# Altium schematic symbol library Hub-UV17.SchLib: 26 symbols
Pins are listed as number, name and electrical type; pins without a type are passive.

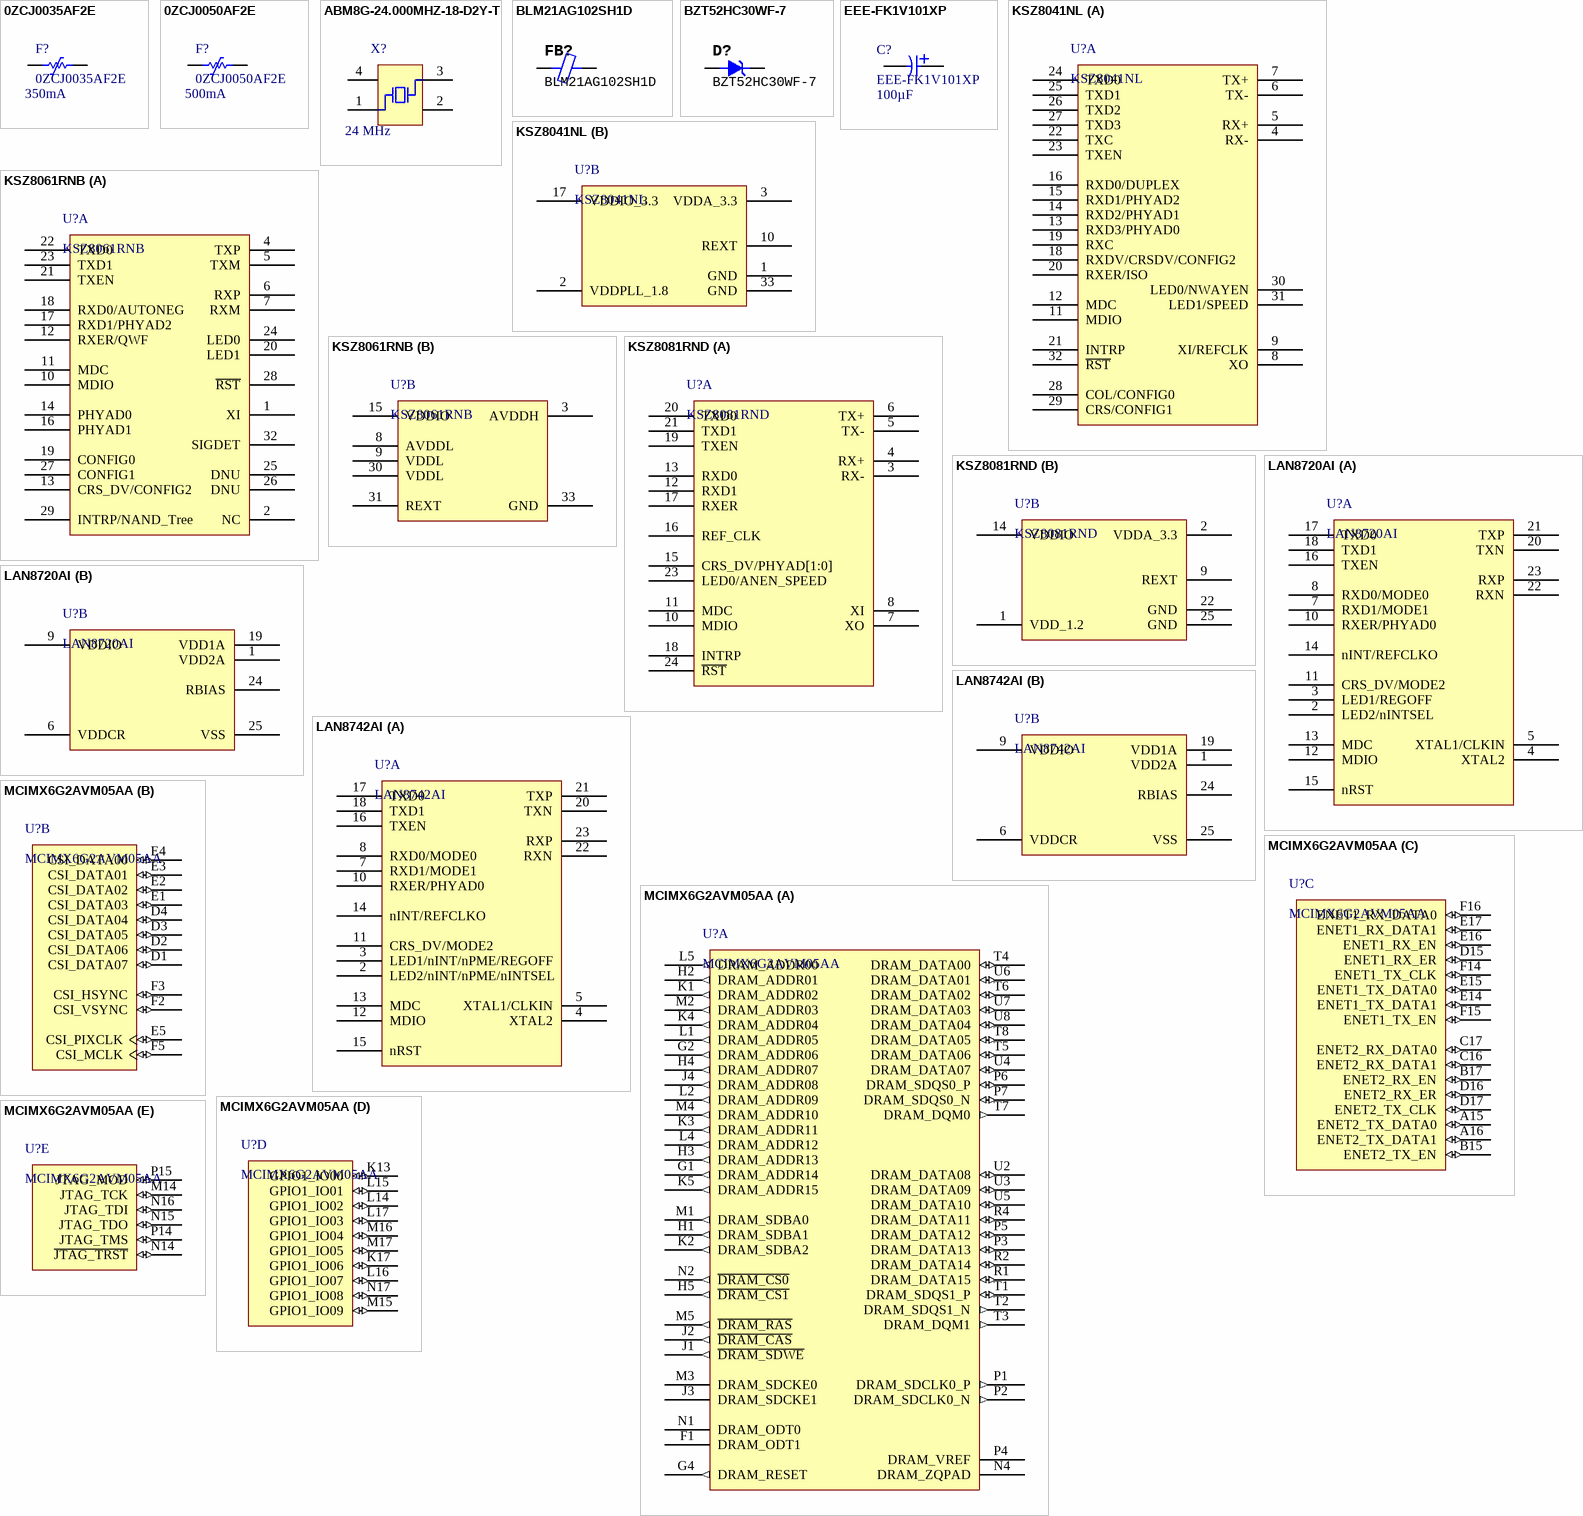
[diagram p0: symbols 0ZCJ0035AF2E to MCIMX6G2AVM05AA]

## 0ZCJ0035AF2E
designator F?  value 350mA
footprint 0ZCJ-1206-0.9
pins: 1, 2

## 0ZCJ0050AF2E
designator F?  value 500mA
footprint 0ZCJ-1206-0.9
pins: 1, 2

## ABM8G-24.000MHZ-18-D2Y-T
designator X?, comment value 24 MHz  (hidden comment: AMB8G)
footprint DFN220P320X100-4N (DFN, 4-Leads, Body 2.30x3.20mm, Pitch 2.20mm, IPC Medium Density)
pins: 1, 2, 3, 4

## BLM21AG102SH1D
designator FB?
Supplier 1: Digi-Key; Supplier Part Number 1: 490-10664-1-ND
footprint INDC2012X11N (Chip Inductor, 2-Leads, Body 2.00x1.25mm, IPC Medium Density)
pins: 1, 2

## BZT52HC30WF-7
designator D?
Supplier 1: Digi-Key; Supplier Part Number 1: BZT52HC30WF-7DICT-ND
footprint SODFL340X115-2N (SODFL, 2-Leads, Body 1.75x3.40mm, IPC Medium Density)
pins: 1 K, 2 A

## EEE-FK1V101XP
designator C?  value 100µF
Supplier 1: Digi-Key; Supplier Part Number 1: PCE3836CT-ND
footprint CAPAE7066X80M (Aluminum Electrolytic Capacitor, Body 6.60x6.60x8.00mm, IPC Low Density)
pins: 1, 2

## KSZ8041NL
designator U?
part A pins: 4 RX-, 5 RX+, 6 TX-, 7 TX+, 8 XO, 9 XI/REFCLK, 11 MDIO, 12 MDC, 13 RXD3/PHYAD0, 14 RXD2/PHYAD1, 15 RXD1/PHYAD2, 16 RXD0/DUPLEX, 18 RXDV/CRSDV/CONFIG2, 19 RXC, 20 RXER/ISO, 21 INTRP, 22 TXC, 23 TXEN, 24 TXD0, 25 TXD1, 26 TXD2, 27 TXD3, 28 COL/CONFIG0, 29 CRS/CONFIG1, 30 LED0/NWAYEN, 31 LED1/SPEED, 32 ~{RST}
part B pins: 1 GND, 2 VDDPLL_1.8, 3 VDDA_3.3, 10 REXT, 17 VDDIO_3.3, 33 GND

## KSZ8061RNB
designator U?
footprint QFN50P500X500X90_HS-33N (QFN, 32-Leads, Body 5.00x5.00mm, Pitch 0.50mm, Thermal Pad 3.10x3.10mm, IPC Medium Density)
part A pins: 1 XI, 2 NC, 4 TXP, 5 TXM, 6 RXP, 7 RXM, 10 MDIO, 11 MDC, 12 RXER/QWF, 13 CRS_DV/CONFIG2, 14 PHYAD0, 16 PHYAD1, 17 RXD1/PHYAD2, 18 RXD0/AUTONEG, 19 CONFIG0, 20 LED1, 21 TXEN, 22 TXD0, 23 TXD1, 24 LED0, 25 DNU, 26 DNU, 27 CONFIG1, 28 ~{RST}, 29 INTRP/NAND_Tree, 32 SIGDET
part B pins: 3 AVDDH, 8 AVDDL, 9 VDDL, 15 VDDIO, 30 VDDL, 31 REXT, 33 GND

## KSZ8081RND
designator U?
footprint QFN50P400X400X90_HS-25N (QFN, 24-Leads, Body 4.00x4.00mm, Pitch 0.50mm, Thermal Pad 2.50x2.50mm, IPC Medium Density)
part A pins: 3 RX-, 4 RX+, 5 TX-, 6 TX+, 7 XO, 8 XI, 10 MDIO, 11 MDC, 12 RXD1, 13 RXD0, 15 CRS_DV/PHYAD[1:0], 16 REF_CLK, 17 RXER, 18 INTRP, 19 TXEN, 20 TXD0, 21 TXD1, 23 LED0/ANEN_SPEED, 24 ~{RST}
part B pins: 1 VDD_1.2, 2 VDDA_3.3, 9 REXT, 14 VDDIO, 22 GND, 25 GND

## LAN8720AI
designator U?
footprint QFN50P400X400X100_HS-25N (QFN, 24-Leads, Body 4.00x4.00mm, Pitch 0.50mm, Thermal Pad 2.50x2.50mm, IPC Medium Density)
part A pins: 2 LED2/nINTSEL, 3 LED1/REGOFF, 4 XTAL2, 5 XTAL1/CLKIN, 7 RXD1/MODE1, 8 RXD0/MODE0, 10 RXER/PHYAD0, 11 CRS_DV/MODE2, 12 MDIO, 13 MDC, 14 nINT/REFCLKO, 15 nRST, 16 TXEN, 17 TXD0, 18 TXD1, 20 TXN, 21 TXP, 22 RXN, 23 RXP
part B pins: 1 VDD2A, 6 VDDCR, 9 VDDIO, 19 VDD1A, 24 RBIAS, 25 VSS

## LAN8742AI
designator U?
footprint QFN50P400X400X100_HS-25N (QFN, 24-Leads, Body 4.00x4.00mm, Pitch 0.50mm, Thermal Pad 2.50x2.50mm, IPC Medium Density)
ibis lan8742i (Model Description)
part A pins: 2 LED2/nINT/nPME/nINTSEL, 3 LED1/nINT/nPME/REGOFF, 4 XTAL2, 5 XTAL1/CLKIN, 7 RXD1/MODE1, 8 RXD0/MODE0, 10 RXER/PHYAD0, 11 CRS_DV/MODE2, 12 MDIO, 13 MDC, 14 nINT/REFCLKO, 15 nRST, 16 TXEN, 17 TXD0, 18 TXD1, 20 TXN, 21 TXP, 22 RXN, 23 RXP
part B pins: 1 VDD2A, 6 VDDCR, 9 VDDIO, 19 VDD1A, 24 RBIAS, 25 VSS

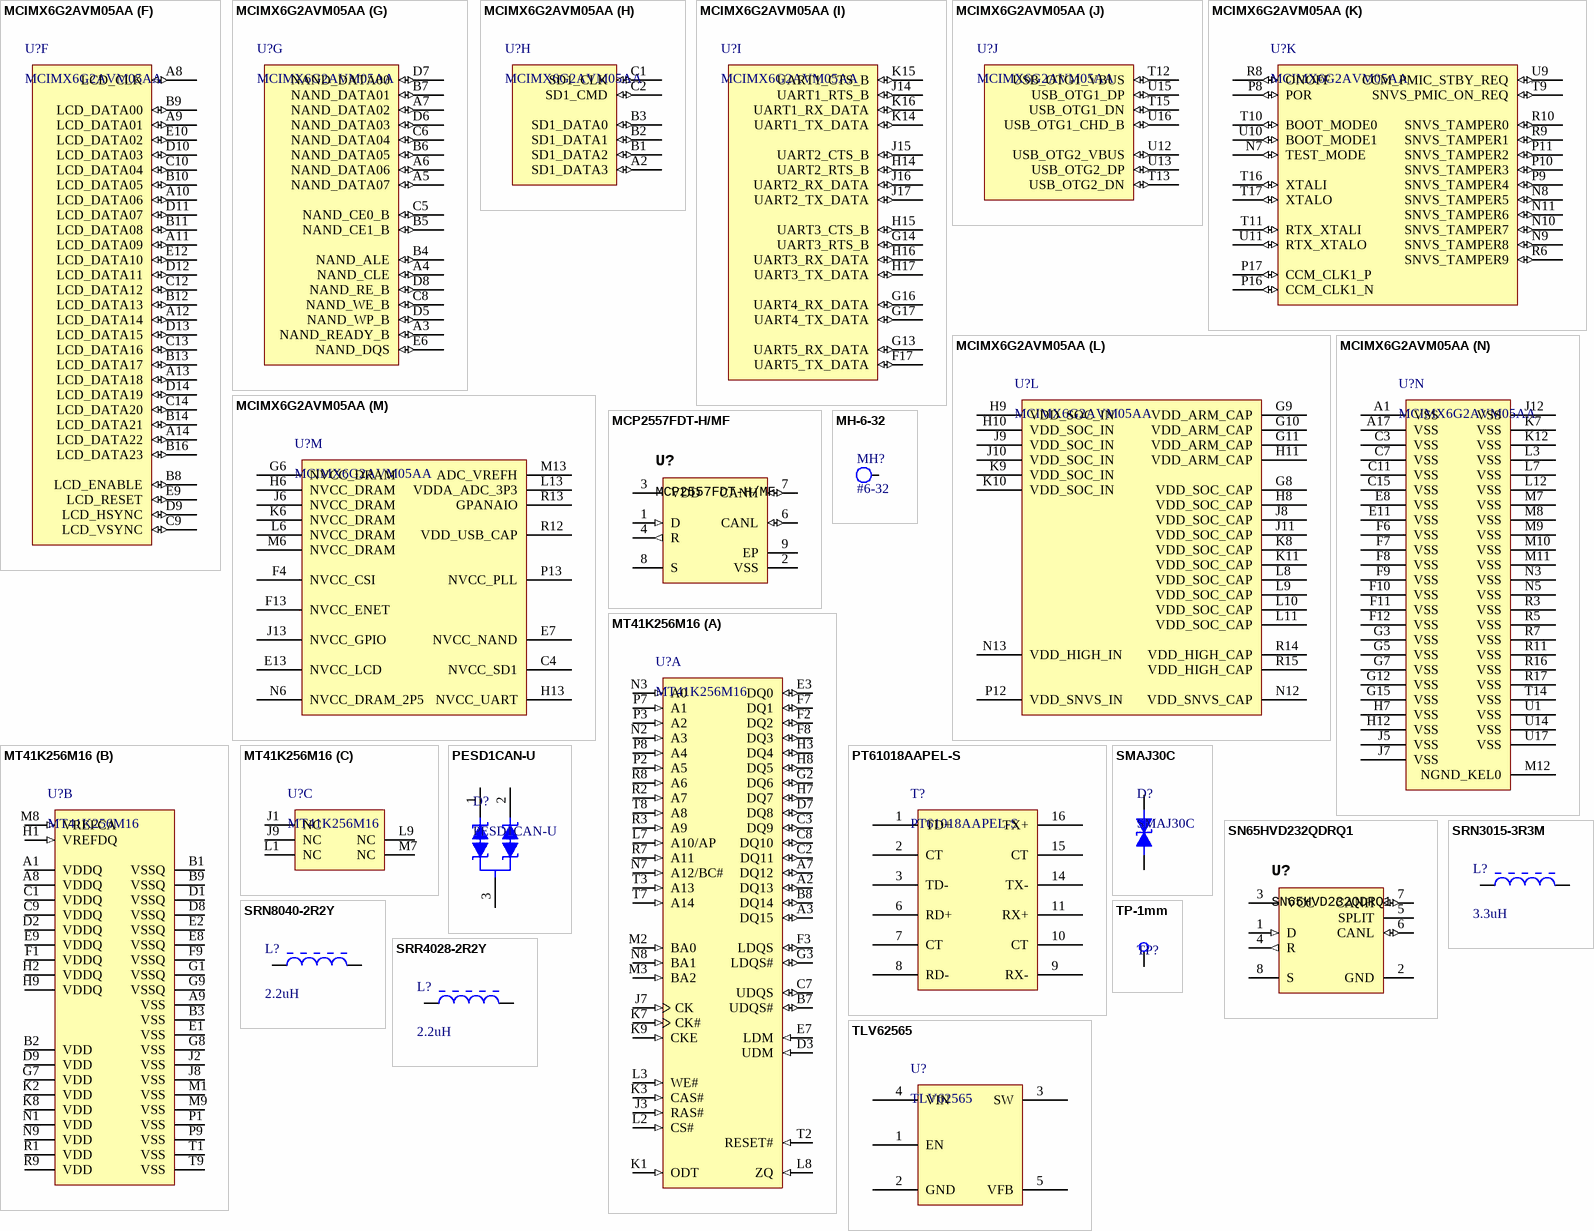
[diagram p1: symbols MCIMX6G2AVM05AA to TP-1mm]

## MCIMX6G2AVM05AA
designator U?
footprint BGA289C80P17X17_1400X1400X132 (BGA, 289-Leads, Body 14.00x14.00mmx1.32mm, Pitch 0.80mm)
ibis imx6ul_14x14 (Model Description)
part A pins: F1 DRAM_ODT1, G1 DRAM_ADDR14 (out), G2 DRAM_ADDR06 (out), G4 DRAM_RESET (out), H1 DRAM_SDBA1 (out), H2 DRAM_ADDR01 (out), H3 DRAM_ADDR13 (out), H4 DRAM_ADDR07 (out), H5 ~{DRAM_CS1} (out), J1 ~{DRAM_SDWE} (out), J2 ~{DRAM_CAS} (out), J3 DRAM_SDCKE1, J4 DRAM_ADDR08 (out), K1 DRAM_ADDR02 (out), K2 DRAM_SDBA2 (out), K3 DRAM_ADDR11 (out), K4 DRAM_ADDR04 (out), K5 DRAM_ADDR15 (out), L1 DRAM_ADDR05 (out), L2 DRAM_ADDR09 (out), L4 DRAM_ADDR12 (out), L5 DRAM_ADDR00 (out), M1 DRAM_SDBA0 (out), M2 DRAM_ADDR03 (out), M3 DRAM_SDCKE0, M4 DRAM_ADDR10 (out), M5 ~{DRAM_RAS} (out), N1 DRAM_ODT0, N2 ~{DRAM_CS0} (out), N4 DRAM_ZQPAD, P1 DRAM_SDCLK0_P (out), P2 DRAM_SDCLK0_N (out), P3 DRAM_DATA13 (io), P4 DRAM_VREF (power), P5 DRAM_DATA12 (io), P6 DRAM_SDQS0_P (io), P7 DRAM_SDQS0_N (io), R1 DRAM_DATA15 (io), R2 DRAM_DATA14 (io), R4 DRAM_DATA11 (io), T1 DRAM_SDQS1_P (io), T2 DRAM_SDQS1_N (out), T3 DRAM_DQM1 (out), T4 DRAM_DATA00 (io), T5 DRAM_DATA06 (io), T6 DRAM_DATA02 (io), T7 DRAM_DQM0 (out), T8 DRAM_DATA05 (io), U2 DRAM_DATA08 (io), U3 DRAM_DATA09 (io), U4 DRAM_DATA07 (io), U5 DRAM_DATA10 (io), U6 DRAM_DATA01 (io), U7 DRAM_DATA03 (io), U8 DRAM_DATA04 (io)
part B pins: D1 CSI_DATA07 (io), D2 CSI_DATA06 (io), D3 CSI_DATA05 (io), D4 CSI_DATA04 (io), E1 CSI_DATA03 (io), E2 CSI_DATA02 (io), E3 CSI_DATA01 (io), E4 CSI_DATA00 (io), E5 CSI_PIXCLK (io), F2 CSI_VSYNC (io), F3 CSI_HSYNC (io), F5 CSI_MCLK (io)
part C pins: A15 ENET2_TX_DATA0 (io), A16 ENET2_TX_DATA1 (io), B15 ENET2_TX_EN (io), B17 ENET2_RX_EN (io), C16 ENET2_RX_DATA1 (io), C17 ENET2_RX_DATA0 (io), D15 ENET1_RX_ER (io), D16 ENET2_RX_ER (io), D17 ENET2_TX_CLK (io), E14 ENET1_TX_DATA1 (io), E15 ENET1_TX_DATA0 (io), E16 ENET1_RX_EN (io), E17 ENET1_RX_DATA1 (io), F14 ENET1_TX_CLK (io), F15 ENET1_TX_EN (io), F16 ENET1_RX_DATA0 (io)
part D pins: K13 GPIO1_IO00 (io), K17 GPIO1_IO06 (io), L14 GPIO1_IO02 (io), L15 GPIO1_IO01 (io), L16 GPIO1_IO07 (io), L17 GPIO1_IO03 (io), M15 GPIO1_IO09 (io), M16 GPIO1_IO04 (io), M17 GPIO1_IO05 (io), N17 GPIO1_IO08 (io)
part E pins: M14 JTAG_TCK (io), N14 ~{JTAG_TRST} (io), N15 JTAG_TDO (io), N16 JTAG_TDI (io), P14 JTAG_TMS (io), P15 JTAG_MOD (io)
part F pins: A8 LCD_CLK (io), A9 LCD_DATA01 (io), A10 LCD_DATA06 (io), A11 LCD_DATA09 (io), A12 LCD_DATA14 (io), A13 LCD_DATA18 (io), A14 LCD_DATA22 (io), B8 LCD_ENABLE (io), B9 LCD_DATA00 (io), B10 LCD_DATA05 (io), B11 LCD_DATA08 (io), B12 LCD_DATA13 (io), B13 LCD_DATA17 (io), B14 LCD_DATA21 (io), B16 LCD_DATA23 (io), C9 LCD_VSYNC (io), C10 LCD_DATA04 (io), C12 LCD_DATA12 (io), C13 LCD_DATA16 (io), C14 LCD_DATA20 (io), D9 LCD_HSYNC (io), D10 LCD_DATA03 (io), D11 LCD_DATA07 (io), D12 LCD_DATA11 (io), D13 LCD_DATA15 (io), D14 LCD_DATA19 (io), E9 LCD_RESET (io), E10 LCD_DATA02 (io), E12 LCD_DATA10 (io)
part G pins: A3 NAND_READY_B (io), A4 NAND_CLE (io), A5 NAND_DATA07 (io), A6 NAND_DATA06 (io), A7 NAND_DATA02 (io), B4 NAND_ALE (io), B5 NAND_CE1_B (io), B6 NAND_DATA05 (io), B7 NAND_DATA01 (io), C5 NAND_CE0_B (io), C6 NAND_DATA04 (io), C8 NAND_WE_B (io), D5 NAND_WP_B (io), D6 NAND_DATA03 (io), D7 NAND_DATA00 (io), D8 NAND_RE_B (io), E6 NAND_DQS (io)
part H pins: A2 SD1_DATA3 (io), B1 SD1_DATA2 (io), B2 SD1_DATA1 (io), B3 SD1_DATA0 (io), C1 SD1_CLK (io), C2 SD1_CMD (io)
part I pins: F17 UART5_TX_DATA (io), G13 UART5_RX_DATA (io), G14 UART3_RTS_B (io), G16 UART4_RX_DATA (io), G17 UART4_TX_DATA (io), H14 UART2_RTS_B (io), H15 UART3_CTS_B (io), H16 UART3_RX_DATA (io), H17 UART3_TX_DATA (io), J14 UART1_RTS_B (io), J15 UART2_CTS_B (io), J16 UART2_RX_DATA (io), J17 UART2_TX_DATA (io), K14 UART1_TX_DATA (io), K15 UART1_CTS_B (io), K16 UART1_RX_DATA (io)
part J pins: T12 USB_OTG1_VBUS (io), T13 USB_OTG2_DN (io), T15 USB_OTG1_DN (io), U12 USB_OTG2_VBUS (io), U13 USB_OTG2_DP (io), U15 USB_OTG1_DP (io), U16 USB_OTG1_CHD_B (io)
part K pins: N7 TEST_MODE (io), N8 SNVS_TAMPER5 (io), N9 SNVS_TAMPER8 (io), N10 SNVS_TAMPER7 (io), N11 SNVS_TAMPER6 (io), P8 POR (io), P9 SNVS_TAMPER4 (io), P10 SNVS_TAMPER3 (io), P11 SNVS_TAMPER2 (io), P16 CCM_CLK1_N (io), P17 CCM_CLK1_P (io), R6 SNVS_TAMPER9 (io), R8 ONOFF (io), R9 SNVS_TAMPER1 (io), R10 SNVS_TAMPER0 (io), T9 SNVS_PMIC_ON_REQ (io), T10 BOOT_MODE0 (io), T11 RTX_XTALI (io), T16 XTALI (io), T17 XTALO (io), U9 CCM_PMIC_STBY_REQ (io), U10 BOOT_MODE1 (io), U11 RTX_XTALO (io)
part L pins: G8 VDD_SOC_CAP (power), G9 VDD_ARM_CAP (power), G10 VDD_ARM_CAP (power), G11 VDD_ARM_CAP (power), H8 VDD_SOC_CAP (power), H9 VDD_SOC_IN (power), H10 VDD_SOC_IN (power), H11 VDD_ARM_CAP (power), J8 VDD_SOC_CAP (power), J9 VDD_SOC_IN (power), J10 VDD_SOC_IN (power), J11 VDD_SOC_CAP (power), K8 VDD_SOC_CAP (power), K9 VDD_SOC_IN (power), K10 VDD_SOC_IN (power), K11 VDD_SOC_CAP (power), L8 VDD_SOC_CAP (power), L9 VDD_SOC_CAP (power), L10 VDD_SOC_CAP (power), L11 VDD_SOC_CAP (power), N12 VDD_SNVS_CAP (power), N13 VDD_HIGH_IN (power), P12 VDD_SNVS_IN (power), R14 VDD_HIGH_CAP (power), R15 VDD_HIGH_CAP (power)
part M pins: C4 NVCC_SD1 (power), E7 NVCC_NAND (power), E13 NVCC_LCD (power), F4 NVCC_CSI (power), F13 NVCC_ENET (power), G6 NVCC_DRAM (power), H6 NVCC_DRAM (power), H13 NVCC_UART (power), J6 NVCC_DRAM (power), J13 NVCC_GPIO (power), K6 NVCC_DRAM (power), L6 NVCC_DRAM (power), L13 VDDA_ADC_3P3 (power), M6 NVCC_DRAM (power), M13 ADC_VREFH (power), N6 NVCC_DRAM_2P5 (power), P13 NVCC_PLL (power), R12 VDD_USB_CAP (power), R13 GPANAIO (power)
part N pins: A1 VSS, A17 VSS, C3 VSS, C7 VSS, C11 VSS, C15 VSS, E8 VSS, E11 VSS, F6 VSS, F7 VSS, F8 VSS, F9 VSS, F10 VSS, F11 VSS, F12 VSS, G3 VSS, G5 VSS, G7 VSS, G12 VSS, G15 VSS, H7 VSS, H12 VSS, J5 VSS, J7 VSS, J12 VSS, K7 VSS, K12 VSS, L3 VSS, L7 VSS, L12 VSS, M7 VSS, M8 VSS, M9 VSS, M10 VSS, M11 VSS, M12 NGND_KEL0 (power), N3 VSS, N5 VSS, R3 VSS, R5 VSS, R7 VSS, R11 VSS, R16 VSS, R17 VSS, T14 VSS, U1 VSS, U14 VSS, U17 VSS

## MCP2557FDT-H/MF
designator U?
CAN transceiver; Supplier 1: Digi-Key; Supplier Part Number 1: MCP2557FDT-H/MFCT-ND
footprint QFN65P300X300X90_HS-9N (QFN, 8-Leads, Body 3.00x3.00mm, Pitch 0.65mm, Thermal Pad 1.55x2.40mm, IPC Medium Density)
pins: 1 D (in) "Driver input", 2 VSS (power) "Ground", 3 VDD (power) "Supply voltage", 4 R (out) "Receiver output", 5 NC hidden "No connection", 6 CANL (io) "Low bus output", 7 CANH (io) "High bus outpu", 8 S "No connection", 9 EP (power) "Ground"

## MH-6-32
designator MH?, comment #6-32
footprint MH-6-32 (#6-32 mounting hole)
pins: 1

## MT41K256M16
designator U?
footprint MICT-HA-96 (BGA, 96-Balls, Body 14x9mm, Pitch 0.8mm)
ibis MT41K1G4RH (Model Description)
part A pins: A2 DQ13 (io) "Data input/output: Upper byte of bidirectional data bus for the x16 configuration. DQ[15:8] are referenced to VREFDQ.", A3 DQ15 (io) "Data input/output: Upper byte of bidirectional data bus for the x16 configuration. DQ[15:8] are referenced to VREFDQ.", A7 DQ12 (io) "Data input/output: Upper byte of bidirectional data bus for the x16 configuration. DQ[15:8] are referenced to VREFDQ.", B7 UDQS# (io) "Upper byte data strobe: Output with read data. Edge-aligned with read data. Input with write data. DQS is center-aligned to write data.", B8 DQ14 (io) "Data input/output: Upper byte of bidirectional data bus for the x16 configuration. DQ[15:8] are referenced to VREFDQ.", C2 DQ11 (io) "Data input/output: Upper byte of bidirectional data bus for the x16 configuration. DQ[15:8] are referenced to VREFDQ.", C3 DQ9 (io) "Data input/output: Upper byte of bidirectional data bus for the x16 configuration. DQ[15:8] are referenced to VREFDQ.", C7 UDQS (io) "Upper byte data strobe: Output with read data. Edge-aligned with read data. Input with write data. DQS is center-aligned to write data.", C8 DQ10 (io) "Data input/output: Upper byte of bidirectional data bus for the x16 configuration. DQ[15:8] are referenced to VREFDQ.", D3 UDM (in) "Input data mask: UDM is an upper-byte, input mask signal for write data. Upperbyte input data is masked when UDM is sampled HIGH along with that input data during a WRITE access. Although the UDM ball is input-only, the UDM (See Datasheet)", D7 DQ8 (io) "Data input/output: Upper byte of bidirectional data bus for the x16 configuration. DQ[15:8] are referenced to VREFDQ.", E3 DQ0 (io) "Data input/output: Lower byte of bidirectional data bus for the x16 configuration. DQ[7:0] are referenced to VREFDQ.", E7 LDM (in) "Input data mask: LDM is a lower-byte, input mask signal for write data. Lower-byte input data is masked when LDM is sampled HIGH along with the input data during a write access. Although the LDM ball is input-only, the LDM (See Datasheet)", F2 DQ2 (io) "Data input/output: Lower byte of bidirectional data bus for the x16 configuration. DQ[7:0] are referenced to VREFDQ.", F3 LDQS (io) "Lower byte data strobe: Output with read data. Edge-aligned with read data. Input with write data. Center-aligned to write data.", F7 DQ1 (io) "Data input/output: Lower byte of bidirectional data bus for the x16 configuration. DQ[7:0] are referenced to VREFDQ.", F8 DQ3 (io) "Data input/output: Lower byte of bidirectional data bus for the x16 configuration. DQ[7:0] are referenced to VREFDQ.", G2 DQ6 (io) "Data input/output: Lower byte of bidirectional data bus for the x16 configuration. DQ[7:0] are referenced to VREFDQ.", G3 LDQS# (io) "Lower byte data strobe: Output with read data. Edge-aligned with read data. Input with write data. Center-aligned to write data.", H3 DQ4 (io) "Data input/output: Lower byte of bidirectional data bus for the x16 configuration. DQ[7:0] are referenced to VREFDQ.", H7 DQ7 (io) "Data input/output: Lower byte of bidirectional data bus for the x16 configuration. DQ[7:0] are referenced to VREFDQ.", H8 DQ5 (io) "Data input/output: Lower byte of bidirectional data bus for the x16 configuration. DQ[7:0] are referenced to VREFDQ.", J3 RAS# (in) "Command inputs: RAS#, CAS#, and WE# (along with CS#) define the command being entered and are referenced to VREFCA.", J7 CK (in) "Clock: CK and CK# are differential clock inputs. All control and address input signals are sampled on the crossing of the positive edge of CK and the negative edge of CK#. Output data strobe (DQS, DQS#) is referenced to the (See Datasheet)", K1 ODT (in) "On-die termination: ODT enables (registered HIGH) and disables (registered LOW) termination resistance internal to the DDR3 SDRAM. When enabled in normal operation, ODT is only applied to each of the following balls: (See Datasheet)", K3 CAS# (in) "Command inputs: RAS#, CAS#, and WE# (along with CS#) define the command being entered and are referenced to VREFCA.", K7 CK# (in) "Clock: CK and CK# are differential clock inputs. All control and address input signals are sampled on the crossing of the positive edge of CK and the negative edge of CK#. Output data strobe (DQS, DQS#) is referenced to the (See Datasheet)", K9 CKE (in) "Clock enable: CKE enables (registered HIGH) and disables (registered LOW) internal circuitry and clocks on the DRAM. The specific circuitry that is enabled/disabled is dependent upon the DDR3 SDRAM configuration and (See Datasheet)", L2 CS# (in) "Chip select: CS# enables (registered LOW) and disables (registered HIGH) the command decoder. All commands are masked when CS# is registered HIGH. CS# provides for external rank selection on systems with multiple ranks. CS# (See Datasheet)", L3 WE# (in) "Command inputs: RAS#, CAS#, and WE# (along with CS#) define the command being entered and are referenced to VREFCA.", L7 A10/AP (in) "Address inputs: Provide the row address for ACTIVATE commands, and the column address and auto precharge bit (A10) for READ/WRITE commands, to select one location out of the memory array in the respective bank. A10 sampled (See Datasheet)", L8 ZQ (in) "External reference ball for output drive calibration: This ball is tied to an external 240ohm resistor (RZQ), which is tied to VSSQ.", M2 BA0 (in) "Bank address inputs: BA[2:0] define the bank to which an ACTIVATE, READ, WRITE, or PRECHARGE command is being applied. BA[2:0] define which mode register (MR0, MR1, MR2, or MR3) is loaded during the LOAD MODE command. (See Datasheet)", M3 BA2 (in) "Bank address inputs: BA[2:0] define the bank to which an ACTIVATE, READ, WRITE, or PRECHARGE command is being applied. BA[2:0] define which mode register (MR0, MR1, MR2, or MR3) is loaded during the LOAD MODE command. (See Datasheet)", N2 A3 (in) "Address inputs: Provide the row address for ACTIVATE commands, and the column address and auto precharge bit (A10) for READ/WRITE commands, to select one location out of the memory array in the respective bank. A10 sampled (See Datasheet)", N3 A0 (in) "Address inputs: Provide the row address for ACTIVATE commands, and the column address and auto precharge bit (A10) for READ/WRITE commands, to select one location out of the memory array in the respective bank. A10 sampled (See Datasheet)", N7 A12/BC# (in) "Address inputs: Provide the row address for ACTIVATE commands, and the column address and auto precharge bit (A10) for READ/WRITE commands, to select one location out of the memory array in the respective bank. A10 sampled (See Datasheet)", N8 BA1 (in) "Bank address inputs: BA[2:0] define the bank to which an ACTIVATE, READ, WRITE, or PRECHARGE command is being applied. BA[2:0] define which mode register (MR0, MR1, MR2, or MR3) is loaded during the LOAD MODE command. (See Datasheet)", P2 A5 (in) "Address inputs: Provide the row address for ACTIVATE commands, and the column address and auto precharge bit (A10) for READ/WRITE commands, to select one location out of the memory array in the respective bank. A10 sampled (See Datasheet)", P3 A2 (in) "Address inputs: Provide the row address for ACTIVATE commands, and the column address and auto precharge bit (A10) for READ/WRITE commands, to select one location out of the memory array in the respective bank. A10 sampled (See Datasheet)", P7 A1 (in) "Address inputs: Provide the row address for ACTIVATE commands, and the column address and auto precharge bit (A10) for READ/WRITE commands, to select one location out of the memory array in the respective bank. A10 sampled (See Datasheet)", P8 A4 (in) "Address inputs: Provide the row address for ACTIVATE commands, and the column address and auto precharge bit (A10) for READ/WRITE commands, to select one location out of the memory array in the respective bank. A10 sampled (See Datasheet)", R2 A7 (in) "Address inputs: Provide the row address for ACTIVATE commands, and the column address and auto precharge bit (A10) for READ/WRITE commands, to select one location out of the memory array in the respective bank. A10 sampled (See Datasheet)", R3 A9 (in) "Address inputs: Provide the row address for ACTIVATE commands, and the column address and auto precharge bit (A10) for READ/WRITE commands, to select one location out of the memory array in the respective bank. A10 sampled (See Datasheet)", R7 A11 (in) "Address inputs: Provide the row address for ACTIVATE commands, and the column address and auto precharge bit (A10) for READ/WRITE commands, to select one location out of the memory array in the respective bank. A10 sampled (See Datasheet)", R8 A6 (in) "Address inputs: Provide the row address for ACTIVATE commands, and the column address and auto precharge bit (A10) for READ/WRITE commands, to select one location out of the memory array in the respective bank. A10 sampled (See Datasheet)", T2 RESET# (in) "Reset: RESET# is an active LOW CMOS input referenced to VSS . The RESET# input receiver is a CMOS input defined as a rail-to-rail signal with DC HIGH >= 0.8 x VDD and DC LOW =< 0.2 x VDDQ. RESET# assertion and desertion are (See Datasheet)", T3 A13 (in) "Address inputs: Provide the row address for ACTIVATE commands, and the column address and auto precharge bit (A10) for READ/WRITE commands, to select one location out of the memory array in the respective bank. A10 sampled (See Datasheet)", T7 A14 (in) "Address inputs: Provide the row address for ACTIVATE commands, and the column address and auto precharge bit (A10) for READ/WRITE commands, to select one location out of the memory array in the respective bank. A10 sampled (See Datasheet)", T8 A8 (in) "Address inputs: Provide the row address for ACTIVATE commands, and the column address and auto precharge bit (A10) for READ/WRITE commands, to select one location out of the memory array in the respective bank. A10 sampled (See Datasheet)"
part B pins: A1 VDDQ (power) "DQ power supply: 1.5V +/-0.075V. Isolated on the device for improved noise immunity.", A8 VDDQ (power) "DQ power supply: 1.5V +/-0.075V. Isolated on the device for improved noise immunity.", A9 VSS (power) "Ground.", B1 VSSQ (power) "DQ ground: Isolated on the device for improved noise immunity.", B2 VDD (power) "Power supply: 1.5V +/-0.075V.", B3 VSS (power) "Ground.", B9 VSSQ (power) "DQ ground: Isolated on the device for improved noise immunity.", C1 VDDQ (power) "DQ power supply: 1.5V +/-0.075V. Isolated on the device for improved noise immunity.", C9 VDDQ (power) "DQ power supply: 1.5V +/-0.075V. Isolated on the device for improved noise immunity.", D1 VSSQ (power) "DQ ground: Isolated on the device for improved noise immunity.", D2 VDDQ (power) "DQ power supply: 1.5V +/-0.075V. Isolated on the device for improved noise immunity.", D8 VSSQ (power) "DQ ground: Isolated on the device for improved noise immunity.", D9 VDD (power) "Power supply: 1.5V +/-0.075V.", E1 VSS (power) "Ground.", E2 VSSQ (power) "DQ ground: Isolated on the device for improved noise immunity.", E8 VSSQ (power) "DQ ground: Isolated on the device for improved noise immunity.", E9 VDDQ (power) "DQ power supply: 1.5V +/-0.075V. Isolated on the device for improved noise immunity.", F1 VDDQ (power) "DQ power supply: 1.5V +/-0.075V. Isolated on the device for improved noise immunity.", F9 VSSQ (power) "DQ ground: Isolated on the device for improved noise immunity.", G1 VSSQ (power) "DQ ground: Isolated on the device for improved noise immunity.", G7 VDD (power) "Power supply: 1.5V +/-0.075V.", G8 VSS (power) "Ground.", G9 VSSQ (power) "DQ ground: Isolated on the device for improved noise immunity.", H1 VREFDQ (in) "Reference voltage for data: VREFDQ must be maintained at all times (excluding self refresh) for proper device operation.", H2 VDDQ (power) "DQ power supply: 1.5V +/-0.075V. Isolated on the device for improved noise immunity.", H9 VDDQ (power) "DQ power supply: 1.5V +/-0.075V. Isolated on the device for improved noise immunity.", J2 VSS (power) "Ground.", J8 VSS (power) "Ground.", K2 VDD (power) "Power supply: 1.5V +/-0.075V.", K8 VDD (power) "Power supply: 1.5V +/-0.075V.", M1 VSS (power) "Ground.", M8 VREFCA (in) "Reference voltage for control, command, and address: VREFCA must be maintained at all times (including self refresh) for proper device operation.", M9 VSS (power) "Ground.", N1 VDD (power) "Power supply: 1.5V +/-0.075V.", N9 VDD (power) "Power supply: 1.5V +/-0.075V.", P1 VSS (power) "Ground.", P9 VSS (power) "Ground.", R1 VDD (power) "Power supply: 1.5V +/-0.075V.", R9 VDD (power) "Power supply: 1.5V +/-0.075V.", T1 VSS (power) "Ground.", T9 VSS (power) "Ground."
part C pins: J1 NC "No connect: These balls should be left unconnected (the ball has no connection to the DRAM or to other balls).", J9 NC "No connect: These balls should be left unconnected (the ball has no connection to the DRAM or to other balls).", L1 NC "No connect: These balls should be left unconnected (the ball has no connection to the DRAM or to other balls).", L9 NC "No connect: These balls should be left unconnected (the ball has no connection to the DRAM or to other balls).", M7 NC "No connect: These balls should be left unconnected (the ball has no connection to the DRAM or to other balls)."

## PESD1CAN-U
designator D?
footprint SOT65P210X110-3N (SOT23, 3-Leads, Body 2.00x2.10mm, Pitch 0.65mm, IPC Medium Density)
pins: 1, 2, 3

## PT61018AAPEL-S
designator T?
footprint SOIC127P930X590-16N (SOIC, 16-Leads, Body 12.80x6.90mm, Pitch 1.27mm, IPC Medium Density)
pins: 1 TD+, 2 CT, 3 TD-, 6 RD+, 7 CT, 8 RD-, 9 RX-, 10 CT, 11 RX+, 14 TX-, 15 CT, 16 TX+

## SMAJ30C
designator D?
footprint SON127P500X135-2N (SON, 2-Leads, Body 3.20x5.00mm, Pitch 1.27mm, IPC Medium Density)
pins: 1, 2

## SN65HVD232QDRQ1
designator U?
CAN transceiver; Supplier 1: Digi-Key; Supplier Part Number 1: 296-15381-1-ND
footprint SOIC127P600X175-8M (SOIC, 8-Leads, Body 4.90x3.90mm, Pitch 1.27mm, IPC Low Density)
pins: 1 D (in) "Driver input", 2 GND (power) "Ground", 3 VCC (power) "Supply voltage", 4 R (out) "Receiver output", 5 SPLIT "No connection", 6 CANL (io) "Low bus output", 7 CANH (io) "High bus outpu", 8 S "No connection"

## SRN3015-3R3M
designator L?  value 3.3uH  (hidden comment: SRN3015-3R3M)
footprint INDP3030X15N (Precision Wire Wound Inductor, 2-Leads, Body 3.00x3.00mm, IPC Medium Density)
pins: 1, 2

## SRN8040-2R2Y
designator L?  value 2.2uH  (hidden comment: SRN8040-2R2Y)
footprint INDP8080X40N (Precision Wire Wound Inductor, 2-Leads, Body 8.00x8.00mm, IPC Medium Density)
pins: 1, 2

## SRR4028-2R2Y
designator L?  value 2.2uH  (hidden comment: SRR4028-2R2Y)
footprint INDP4848X28N (Precision Wire Wound Inductor, 2-Leads, Body 4.80x4.80mm, IPC Medium Density)
pins: 1, 2

## TLV62565
designator U?
x 1.5-A High Efficiency Step-Down Converters in SOT-23 5-Pin Package
footprint SOT95P280X145-5N (SOT23, 5-Leads, Body 2.90x2.80mm, Pitch 0.95mm, IPC Medium Density)
pins: 1 EN, 2 GND, 3 SW, 4 VIN (power), 5 VFB

## TP-1mm
designator TP?, comment 1mm  (value not drawn)
footprint TP-1mm
pins: 1

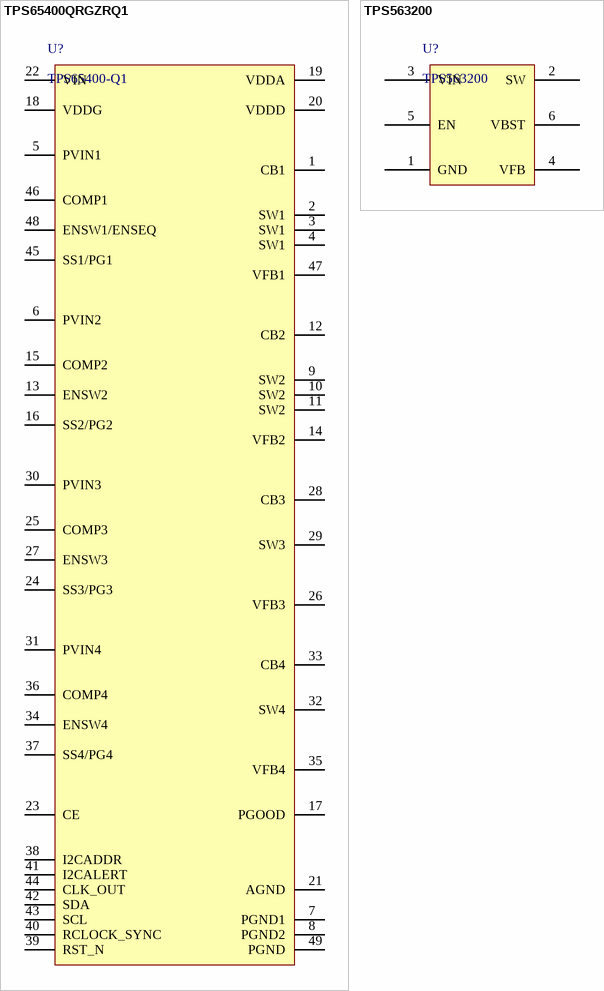
[diagram p2: symbols TPS65400QRGZRQ1 to TPS563200]

## TPS65400QRGZRQ1
designator U?, comment TPS65400-Q1
Supplier 1: Digi-Key; Supplier Part Number 1: 296-42986-1-ND
footprint QFN50P700X700X100_HS-49N (QFN, 48-Leads, Body 7.00x7.00mm, Pitch 0.50mm, Thermal Pad 4.08x4.08mm, IPC Medium Density)
pins: 1 CB1, 2 SW1, 3 SW1, 4 SW1, 5 PVIN1, 6 PVIN2, 7 PGND1, 8 PGND2, 9 SW2, 10 SW2, 11 SW2, 12 CB2, 13 ENSW2, 14 VFB2, 15 COMP2, 16 SS2/PG2, 17 PGOOD, 18 VDDG, 19 VDDA, 20 VDDD, 21 AGND, 22 VIN, 23 CE, 24 SS3/PG3, 25 COMP3, 26 VFB3, 27 ENSW3, 28 CB3, 29 SW3, 30 PVIN3, 31 PVIN4, 32 SW4, 33 CB4, 34 ENSW4, 35 VFB4, 36 COMP4, 37 SS4/PG4, 38 I2CADDR, 39 RST_N, 40 RCLOCK_SYNC, 41 I2CALERT, 42 SDA, 43 SCL, 44 CLK_OUT, 45 SS1/PG1, 46 COMP1, 47 VFB1, 48 ENSW1/ENSEQ, 49 PGND

## TPS563200
designator U?
4.5-V To 17-V Input, 2-A, 3-A Synchronous Step-Down Voltage Regulator In  6 Pin SOT-23
footprint TSOP95P280X110-6N (TSOP, 6-Leads, Body 2.90x1.60mm, Pitch 0.95mm, IPC Medium Density)
pins: 1 GND, 2 SW, 3 VIN (power), 4 VFB, 5 EN, 6 VBST